# EAGLE library part WEMOSCP2102 (library wemos cp2102)
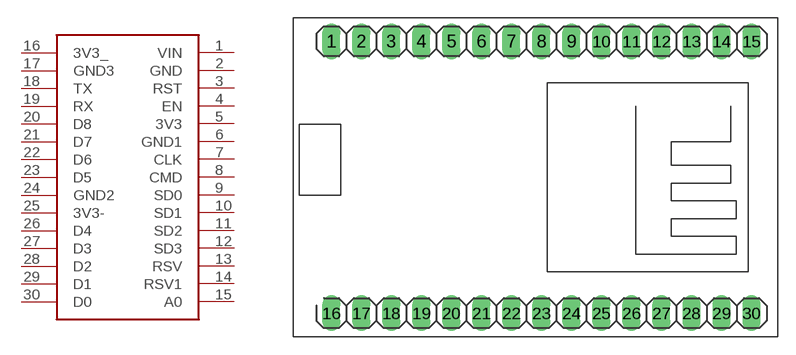
[diagram p0: symbol with the pads of WEMOSCP2102; footprint WEMOSCP2102]

Designator prefix -

## WEMOSCP2102  [WEMOSCP2102]
1  VIN
2  GND
3  RST
4  EN
5  3V3
6  GND1
7  CLK
8  CMD
9  SD0
10  SD1
11  SD2
12  SD3
13  RSV
14  RSV1
15  A0
16  3V3_
17  GND3
18  TX
19  RX
20  D8
21  D7
22  D6
23  D5
24  GND2
25  3V3-
26  D4
27  D3
28  D2
29  D1
30  D0

## Footprint WEMOSCP2102 (pad centres in mm)
drill 1.016 long: 1 -17.78,10; 2 -15.24,10; 3 -12.7,10; 4 -10.16,10; 5 -7.62,10; 6 -5.08,10; 7 -2.54,10; 8 0,10; 9 2.54,10; 10 5.08,10; 11 7.62,10; 12 10.16,10; 13 12.7,10; 14 15.24,10; 15 17.78,10; 16 -17.78,-13; 17 -15.24,-13; 18 -12.7,-13; 19 -10.16,-13; 20 -7.62,-13; 21 -5.08,-13; 22 -2.54,-13; 23 0,-13; 24 2.54,-13; 25 5.08,-13; 26 7.62,-13; 27 10.16,-13; 28 12.7,-13; 29 15.24,-13; 30 17.78,-13